# Altium integrated library Microchip Interface.IntLib: 180 symbols (part 5 of 6)
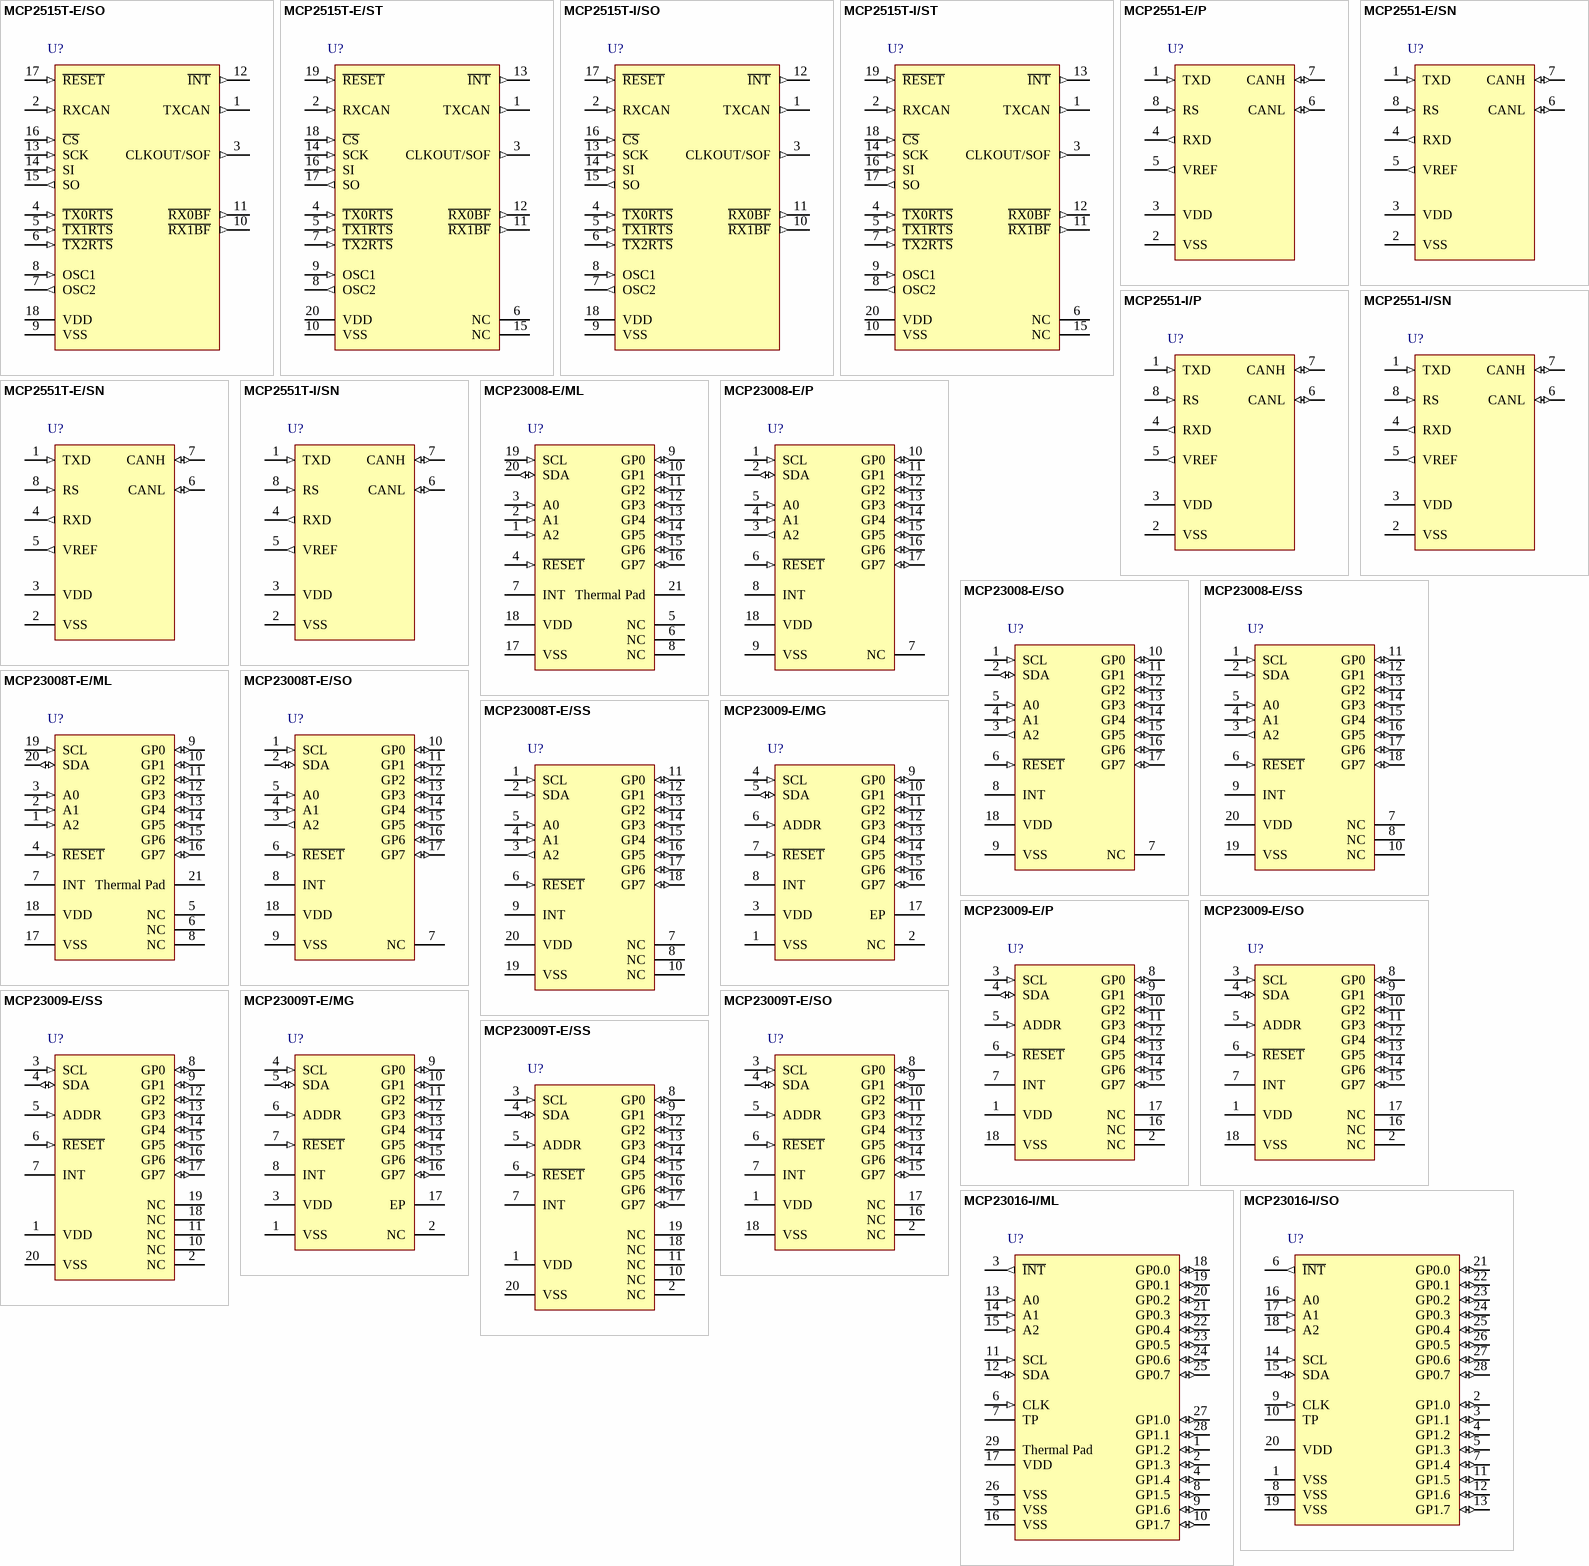
[diagram p12: symbols MCP2515T-E/SO to MCP23016-I/SO]

## MCP23016-I/SO
designator U?
16-Bit I2C I/O Expander, 28-Pin SOIC, Industrial Temperature; Published: 29-Jan-2009; DatasheetVersion: revC, Jan-2007; PackageVersion: revBB, Aug-2009; PackageReference: SOIC-SO28; Publisher: Altium Limited; PackageDescription: 28-Lead Plastic Small Outline (SO) - Wide 7.50mm Body [SOIC]; Supplier 1: Digi-Key; Supplier Part Number 1: MCP23016-I/SO-ND; Supplier 2: Farnell; Supplier Part Number 2: 1439758; Code_JEDEC: MS-013; ComponentLink1Description: Datasheet; ComponentLink1URL: http://ww1.microchip.com/downloads/en/DeviceDoc/20090C.pdf; ComponentLink2Description: Packaging Specification; ComponentLink2URL: http://www.microchip.com/stellent/groups/techpub_sg/documents/packagingspec/en012702.pdf; ComponentLink3Description: Microchip.com Home; ComponentLink3URL: http://www.microchip.com/
footprint SOIC-SO28_N (SOIC, 28-Leads, Body 17.9x7.5mm, Pitch 1.27mm, IPC Medium Density)
footprint SOIC-SO28_L (SOIC, 28-Leads, Body 17.9x7.5mm, Pitch 1.27mm, IPC High Density)
footprint SOIC-SO28_M (SOIC, 28-Leads, Body 17.9x7.5mm, Pitch 1.27mm, IPC Low Density)
pins: 1 VSS (power), 2 GP1.0 (io), 3 GP1.1 (io), 4 GP1.2 (io), 5 GP1.3 (io), 6 ~{INT} (out), 7 GP1.4 (io), 8 VSS (power), 9 CLK (in), 10 TP, 11 GP1.5 (io), 12 GP1.6 (io), 13 GP1.7 (io), 14 SCL (in), 15 SDA (io), 16 A0 (in), 17 A1 (in), 18 A2 (in), 19 VSS (power), 20 VDD (power), 21 GP0.0 (io), 22 GP0.1 (io), 23 GP0.2 (io), 24 GP0.3 (io), 25 GP0.4 (io), 26 GP0.5 (io), 27 GP0.6 (io), 28 GP0.7 (io)

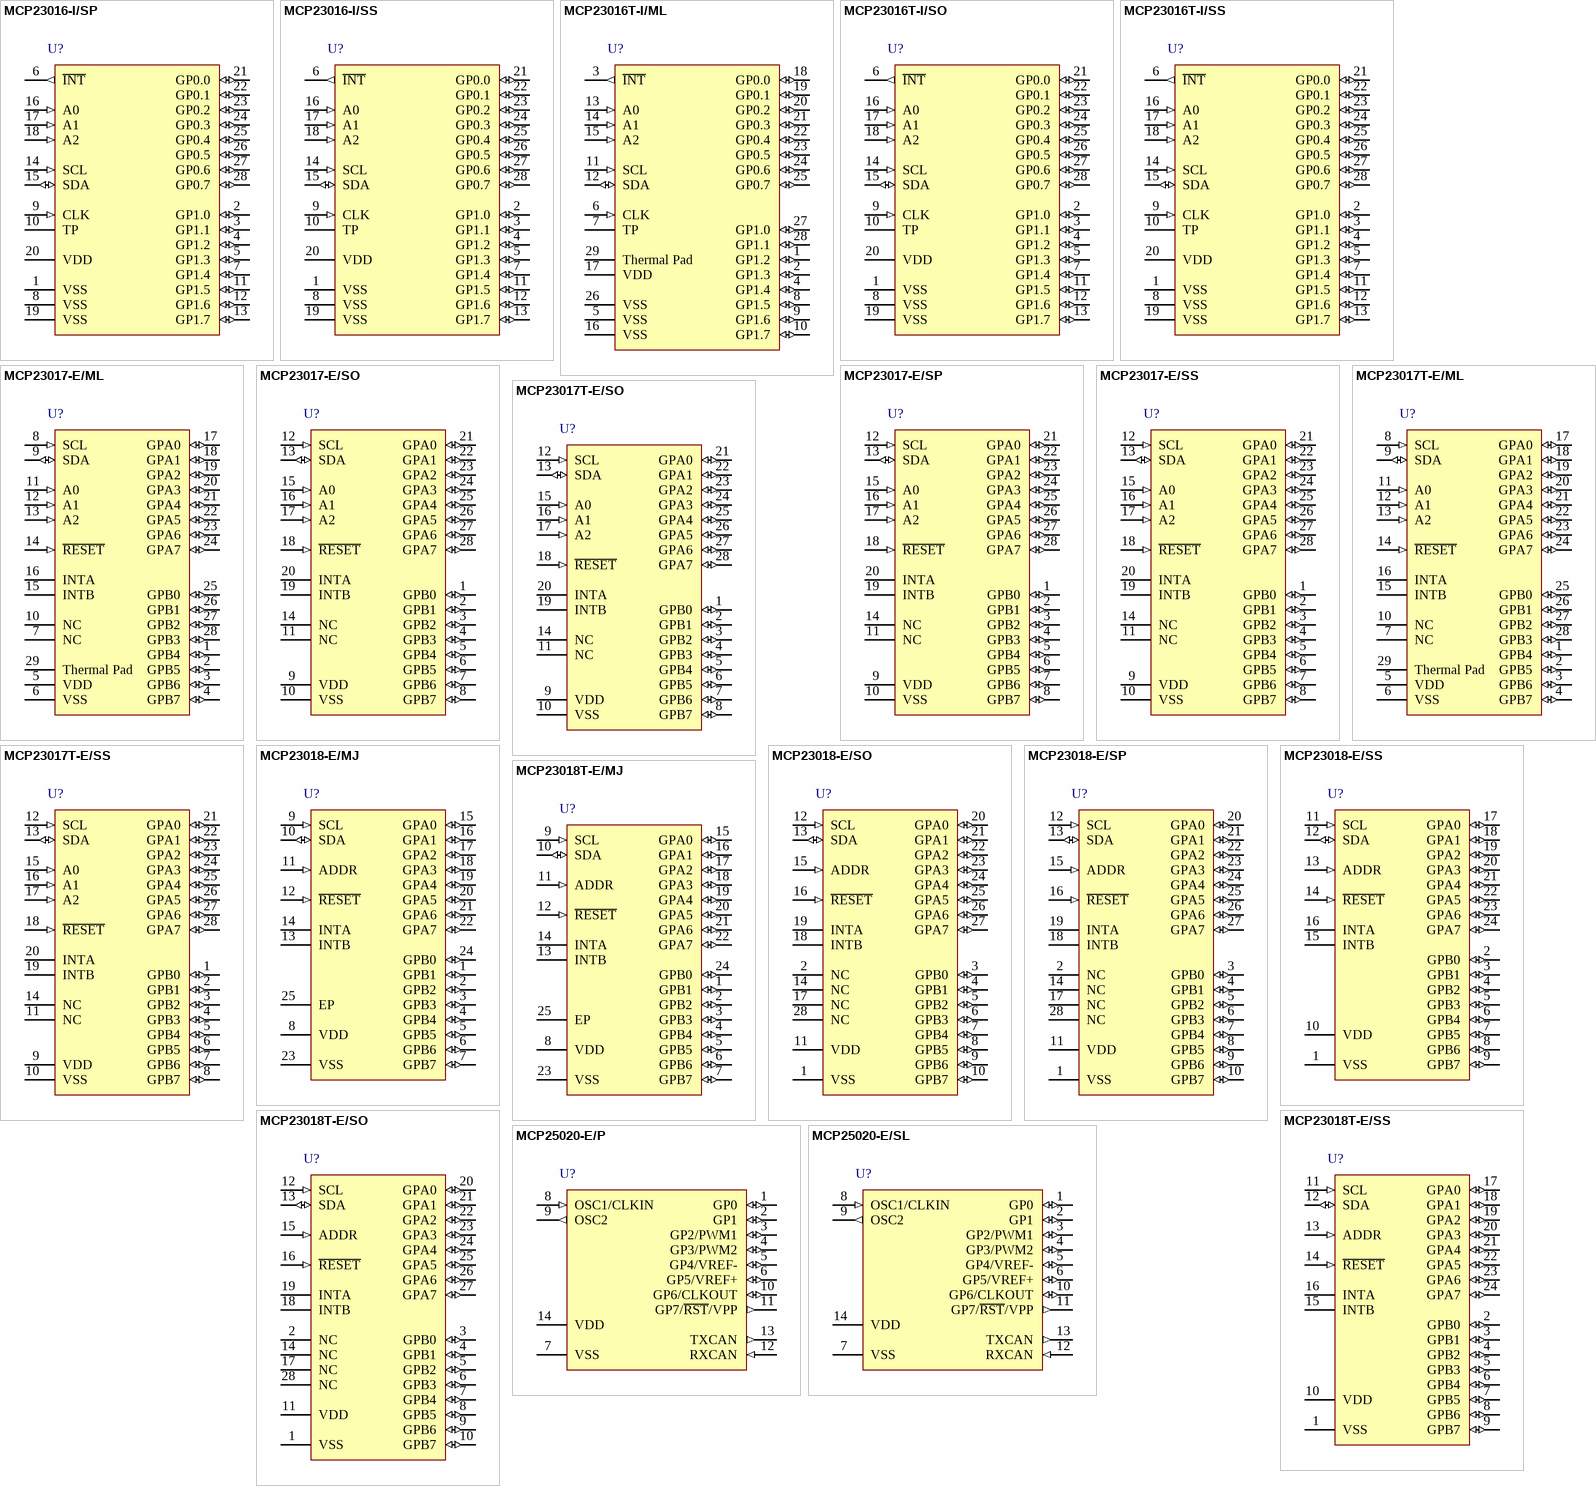
[diagram p7: symbols MCP23016-I/SP to MCP25020-E/SL]

## MCP23016-I/SP
designator U?
16-Bit I2C I/O Expander, 28-Pin SPDIP, Industrial Temperature; Published: 29-Jan-2009; DatasheetVersion: revC, Jan-2007; PackageVersion: revBB, Aug-2009; PackageReference: SPDIP300-SP28; Publisher: Altium Limited; PackageDescription: 28-Lead Skinny Plastic Dual In-Line (SP) - 300 mil Body [SPDIP]; Supplier 1: Digi-Key; Supplier Part Number 1: MCP23016-I/SP-ND; Supplier 2: Farnell; Supplier Part Number 2: 1439389; ComponentLink1Description: Datasheet; ComponentLink1URL: http://ww1.microchip.com/downloads/en/DeviceDoc/20090C.pdf; ComponentLink2Description: Packaging Specification; ComponentLink2URL: http://www.microchip.com/stellent/groups/techpub_sg/documents/packagingspec/en012702.pdf; ComponentLink3Description: Microchip.com Home; ComponentLink3URL: http://www.microchip.com/
footprint SPDIP300-SP28 (DIP, 28-Leads, Row Spacing 7.62mm, Pitch 2.54mm, Body 34.9x6.8mm)
pins: 1 VSS (power), 2 GP1.0 (io), 3 GP1.1 (io), 4 GP1.2 (io), 5 GP1.3 (io), 6 ~{INT} (out), 7 GP1.4 (io), 8 VSS (power), 9 CLK (in), 10 TP, 11 GP1.5 (io), 12 GP1.6 (io), 13 GP1.7 (io), 14 SCL (in), 15 SDA (io), 16 A0 (in), 17 A1 (in), 18 A2 (in), 19 VSS (power), 20 VDD (power), 21 GP0.0 (io), 22 GP0.1 (io), 23 GP0.2 (io), 24 GP0.3 (io), 25 GP0.4 (io), 26 GP0.5 (io), 27 GP0.6 (io), 28 GP0.7 (io)

## MCP23016-I/SS
designator U?
16-Bit I2C I/O Expander, 28-Pin SSOP, Industrial Temperature; Published: 29-Jan-2009; DatasheetVersion: revC, Jan-2007; PackageVersion: revBB, Aug-2009; PackageReference: SSOP-SS28; Publisher: Altium Limited; PackageDescription: 28-Lead Plastic Shrink Small Outline (SS) - 5.3mm Body [SSOP]; Supplier 1: Digi-Key; Supplier Part Number 1: MCP23016-I/SS-ND; Supplier 2: Farnell; Supplier Part Number 2: 1439757; Code_JEDEC: MS-150; Code_IPC: SOP65P780-28; ComponentLink1Description: Datasheet; ComponentLink1URL: http://ww1.microchip.com/downloads/en/DeviceDoc/20090C.pdf; ComponentLink2Description: Packaging Specification; ComponentLink2URL: http://www.microchip.com/stellent/groups/techpub_sg/documents/packagingspec/en012702.pdf; ComponentLink3Description: Microchip.com Home; ComponentLink3URL: http://www.microchip.com/
footprint SSOP-SS28_N (SOP, 28-Leads, Body 10.2x5.2mm, Pitch 0.65mm, IPC Medium Density)
footprint SSOP-SS28_L (SOP, 28-Leads, Body 10.2x5.2mm, Pitch 0.65mm, IPC High Density)
footprint SSOP-SS28_M (SOP, 28-Leads, Body 10.2x5.2mm, Pitch 0.65mm, IPC Low Density)
pins: 1 VSS (power), 2 GP1.0 (io), 3 GP1.1 (io), 4 GP1.2 (io), 5 GP1.3 (io), 6 ~{INT} (out), 7 GP1.4 (io), 8 VSS (power), 9 CLK (in), 10 TP, 11 GP1.5 (io), 12 GP1.6 (io), 13 GP1.7 (io), 14 SCL (in), 15 SDA (io), 16 A0 (in), 17 A1 (in), 18 A2 (in), 19 VSS (power), 20 VDD (power), 21 GP0.0 (io), 22 GP0.1 (io), 23 GP0.2 (io), 24 GP0.3 (io), 25 GP0.4 (io), 26 GP0.5 (io), 27 GP0.6 (io), 28 GP0.7 (io)

## MCP23016T-I/ML
designator U?
16-Bit I2C I/O Expander, 28-Pin QFN, Industrial Temperature, Tape and Reel; Published: 29-Jan-2009; DatasheetVersion: revC, Jan-2007; PackageVersion: revBB, Aug-2009; PackageReference: QFN-ML28; Publisher: Altium Limited; PackageDescription: 28-Lead Plastic Quad Flat, No Lead Package (ML) - 6x6 mm Body [QFN] with 0.55 mm Contact Length; Supplier 1: Digi-Key; Supplier Part Number 1: MCP23016T-I/ML-ND; Code_JEDEC: MO-220; Code_IPC: QFN65P600X600-28V; ComponentLink1Description: Datasheet; ComponentLink1URL: http://ww1.microchip.com/downloads/en/DeviceDoc/20090C.pdf; ComponentLink2Description: Packaging Specification; ComponentLink2URL: http://www.microchip.com/stellent/groups/techpub_sg/documents/packagingspec/en012702.pdf; ComponentLink3Description: Microchip.com Home; ComponentLink3URL: http://www.microchip.com/
footprint QFN-ML28_N (QFN, 28-Leads, Body 6x6 mm, Pitch 0.65mm, IPC Medium Density)
footprint QFN-ML28_L (QFN, 28-Leads, Body 6x6 mm, Pitch 0.65mm, IPC High Density)
footprint QFN-ML28_M (QFN, 28-Leads, Body 6x6 mm, Pitch 0.65mm, IPC Low Density)
pins: 1 GP1.2 (io), 2 GP1.3 (io), 3 ~{INT} (out), 4 GP1.4 (io), 5 VSS (power), 6 CLK (in), 7 TP, 8 GP1.5 (io), 9 GP1.6 (io), 10 GP1.7 (io), 11 SCL (in), 12 SDA (io), 13 A0 (in), 14 A1 (in), 15 A2 (in), 16 VSS (power), 17 VDD (power), 18 GP0.0 (io), 19 GP0.1 (io), 20 GP0.2 (io), 21 GP0.3 (io), 22 GP0.4 (io), 23 GP0.5 (io), 24 GP0.6 (io), 25 GP0.7 (io), 26 VSS (power), 27 GP1.0 (io), 28 GP1.1 (io), 29 Thermal Pad

## MCP23016T-I/SO
designator U?
16-Bit I2C I/O Expander, 28-Pin SOIC, Industrial Temperature, Tape and Reel; Published: 29-Jan-2009; DatasheetVersion: revC, Jan-2007; PackageVersion: revBB, Aug-2009; PackageReference: SOIC-SO28; Publisher: Altium Limited; PackageDescription: 28-Lead Plastic Small Outline (SO) - Wide 7.50mm Body [SOIC]; Supplier 1: Digi-Key; Supplier Part Number 1: MCP23016T-I/SO-ND; Code_JEDEC: MS-013; ComponentLink1Description: Datasheet; ComponentLink1URL: http://ww1.microchip.com/downloads/en/DeviceDoc/20090C.pdf; ComponentLink2Description: Packaging Specification; ComponentLink2URL: http://www.microchip.com/stellent/groups/techpub_sg/documents/packagingspec/en012702.pdf; ComponentLink3Description: Microchip.com Home; ComponentLink3URL: http://www.microchip.com/
footprint SOIC-SO28_N (SOIC, 28-Leads, Body 17.9x7.5mm, Pitch 1.27mm, IPC Medium Density)
footprint SOIC-SO28_L (SOIC, 28-Leads, Body 17.9x7.5mm, Pitch 1.27mm, IPC High Density)
footprint SOIC-SO28_M (SOIC, 28-Leads, Body 17.9x7.5mm, Pitch 1.27mm, IPC Low Density)
pins: 1 VSS (power), 2 GP1.0 (io), 3 GP1.1 (io), 4 GP1.2 (io), 5 GP1.3 (io), 6 ~{INT} (out), 7 GP1.4 (io), 8 VSS (power), 9 CLK (in), 10 TP, 11 GP1.5 (io), 12 GP1.6 (io), 13 GP1.7 (io), 14 SCL (in), 15 SDA (io), 16 A0 (in), 17 A1 (in), 18 A2 (in), 19 VSS (power), 20 VDD (power), 21 GP0.0 (io), 22 GP0.1 (io), 23 GP0.2 (io), 24 GP0.3 (io), 25 GP0.4 (io), 26 GP0.5 (io), 27 GP0.6 (io), 28 GP0.7 (io)

## MCP23016T-I/SS
designator U?
16-Bit I2C I/O Expander, 28-Pin SSOP, Industrial Temperature, Tape and Reel; Published: 29-Jan-2009; DatasheetVersion: revC, Jan-2007; PackageVersion: revBB, Aug-2009; PackageReference: SSOP-SS28; Publisher: Altium Limited; PackageDescription: 28-Lead Plastic Shrink Small Outline (SS) - 5.3mm Body [SSOP]; Supplier 1: Digi-Key; Supplier Part Number 1: MCP23016T-I/SS-ND; Code_JEDEC: MS-150; Code_IPC: SOP65P780-28; ComponentLink1Description: Datasheet; ComponentLink1URL: http://ww1.microchip.com/downloads/en/DeviceDoc/20090C.pdf; ComponentLink2Description: Packaging Specification; ComponentLink2URL: http://www.microchip.com/stellent/groups/techpub_sg/documents/packagingspec/en012702.pdf; ComponentLink3Description: Microchip.com Home; ComponentLink3URL: http://www.microchip.com/
footprint SSOP-SS28_N (SOP, 28-Leads, Body 10.2x5.2mm, Pitch 0.65mm, IPC Medium Density)
footprint SSOP-SS28_L (SOP, 28-Leads, Body 10.2x5.2mm, Pitch 0.65mm, IPC High Density)
footprint SSOP-SS28_M (SOP, 28-Leads, Body 10.2x5.2mm, Pitch 0.65mm, IPC Low Density)
pins: 1 VSS (power), 2 GP1.0 (io), 3 GP1.1 (io), 4 GP1.2 (io), 5 GP1.3 (io), 6 ~{INT} (out), 7 GP1.4 (io), 8 VSS (power), 9 CLK (in), 10 TP, 11 GP1.5 (io), 12 GP1.6 (io), 13 GP1.7 (io), 14 SCL (in), 15 SDA (io), 16 A0 (in), 17 A1 (in), 18 A2 (in), 19 VSS (power), 20 VDD (power), 21 GP0.0 (io), 22 GP0.1 (io), 23 GP0.2 (io), 24 GP0.3 (io), 25 GP0.4 (io), 26 GP0.5 (io), 27 GP0.6 (io), 28 GP0.7 (io)

## MCP23017-E/ML
designator U?
16-Bit I/O Expander with Serial Interface, 28-Pin QFN, Extended Temperature; Published: 29-Jan-2009; DatasheetVersion: revB, Feb-2007; PackageVersion: revBB, Aug-2009; PackageReference: QFN-ML28; Publisher: Altium Limited; PackageDescription: 28-Lead Plastic Quad Flat, No Lead Package (ML) - 6x6 mm Body [QFN] with 0.55 mm Contact Length; Supplier 1: Digi-Key; Supplier Part Number 1: MCP23017-E/ML-ND; Supplier 2: Farnell; Supplier Part Number 2: 1788352; Code_JEDEC: MO-220; Code_IPC: QFN65P600X600-28V; ComponentLink1Description: Datasheet; ComponentLink1URL: http://ww1.microchip.com/downloads/en/DeviceDoc/21952b.pdf; ComponentLink2Description: Packaging Specification; ComponentLink2URL: http://www.microchip.com/stellent/groups/techpub_sg/documents/packagingspec/en012702.pdf; ComponentLink3Description: Microchip.com Home; ComponentLink3URL: http://www.microchip.com/
footprint QFN-ML28_N (QFN, 28-Leads, Body 6x6 mm, Pitch 0.65mm, IPC Medium Density)
footprint QFN-ML28_L (QFN, 28-Leads, Body 6x6 mm, Pitch 0.65mm, IPC High Density)
footprint QFN-ML28_M (QFN, 28-Leads, Body 6x6 mm, Pitch 0.65mm, IPC Low Density)
pins: 1 GPB4 (io), 2 GPB5 (io), 3 GPB6 (io), 4 GPB7 (io), 5 VDD (power), 6 VSS (power), 7 NC, 8 SCL (in), 9 SDA (io), 10 NC, 11 A0 (in), 12 A1 (in), 13 A2 (in), 14 ~{RESET} (in), 15 INTB (oc), 16 INTA (oc), 17 GPA0 (io), 18 GPA1 (io), 19 GPA2 (io), 20 GPA3 (io), 21 GPA4 (io), 22 GPA5 (io), 23 GPA6 (io), 24 GPA7 (io), 25 GPB0 (io), 26 GPB1 (io), 27 GPB2 (io), 28 GPB3 (io), 29 Thermal Pad

## MCP23017-E/SO
designator U?
16-Bit I/O Expander with Serial Interface, 28-Pin SOIC, Extended Temperature; Published: 29-Jan-2009; DatasheetVersion: revB, Feb-2007; PackageVersion: revBB, Aug-2009; PackageReference: SOIC-SO28; Publisher: Altium Limited; PackageDescription: 28-Lead Plastic Small Outline (SO) - Wide 7.50mm Body [SOIC]; Supplier 1: Digi-Key; Supplier Part Number 1: MCP23017-E/SO-ND; Supplier 2: Farnell; Supplier Part Number 2: 1332087; Code_JEDEC: MS-013; ComponentLink1Description: Datasheet; ComponentLink1URL: http://ww1.microchip.com/downloads/en/DeviceDoc/21952b.pdf; ComponentLink2Description: Packaging Specification; ComponentLink2URL: http://www.microchip.com/stellent/groups/techpub_sg/documents/packagingspec/en012702.pdf; ComponentLink3Description: Microchip.com Home; ComponentLink3URL: http://www.microchip.com/
footprint SOIC-SO28_N (SOIC, 28-Leads, Body 17.9x7.5mm, Pitch 1.27mm, IPC Medium Density)
footprint SOIC-SO28_L (SOIC, 28-Leads, Body 17.9x7.5mm, Pitch 1.27mm, IPC High Density)
footprint SOIC-SO28_M (SOIC, 28-Leads, Body 17.9x7.5mm, Pitch 1.27mm, IPC Low Density)
pins: 1 GPB0 (io), 2 GPB1 (io), 3 GPB2 (io), 4 GPB3 (io), 5 GPB4 (io), 6 GPB5 (io), 7 GPB6 (io), 8 GPB7 (io), 9 VDD (power), 10 VSS (power), 11 NC, 12 SCL (in), 13 SDA (io), 14 NC, 15 A0 (in), 16 A1 (in), 17 A2 (in), 18 ~{RESET} (in), 19 INTB (oc), 20 INTA (oc), 21 GPA0 (io), 22 GPA1 (io), 23 GPA2 (io), 24 GPA3 (io), 25 GPA4 (io), 26 GPA5 (io), 27 GPA6 (io), 28 GPA7 (io)

## MCP23017-E/SP
designator U?
16-Bit I/O Expander with Serial Interface, 28-Pin SPDIP, Extended Temperature; Published: 29-Jan-2009; DatasheetVersion: revB, Feb-2007; PackageVersion: revBB, Aug-2009; PackageReference: SPDIP300-SP28; Publisher: Altium Limited; PackageDescription: 28-Lead Skinny Plastic Dual In-Line (SP) - 300 mil Body [SPDIP]; Supplier 1: Digi-Key; Supplier Part Number 1: MCP23017-E/SP-ND; Supplier 2: Farnell; Supplier Part Number 2: 1332088; ComponentLink1Description: Datasheet; ComponentLink1URL: http://ww1.microchip.com/downloads/en/DeviceDoc/21952b.pdf; ComponentLink2Description: Packaging Specification; ComponentLink2URL: http://www.microchip.com/stellent/groups/techpub_sg/documents/packagingspec/en012702.pdf; ComponentLink3Description: Microchip.com Home; ComponentLink3URL: http://www.microchip.com/
footprint SPDIP300-SP28 (DIP, 28-Leads, Row Spacing 7.62mm, Pitch 2.54mm, Body 34.9x6.8mm)
pins: 1 GPB0 (io), 2 GPB1 (io), 3 GPB2 (io), 4 GPB3 (io), 5 GPB4 (io), 6 GPB5 (io), 7 GPB6 (io), 8 GPB7 (io), 9 VDD (power), 10 VSS (power), 11 NC, 12 SCL (in), 13 SDA (io), 14 NC, 15 A0 (in), 16 A1 (in), 17 A2 (in), 18 ~{RESET} (in), 19 INTB (oc), 20 INTA (oc), 21 GPA0 (io), 22 GPA1 (io), 23 GPA2 (io), 24 GPA3 (io), 25 GPA4 (io), 26 GPA5 (io), 27 GPA6 (io), 28 GPA7 (io)

## MCP23017-E/SS
designator U?
16-Bit I/O Expander with Serial Interface, 28-Pin SSOP, Extended Temperature; Published: 29-Jan-2009; DatasheetVersion: revB, Feb-2007; PackageVersion: revBB, Aug-2009; PackageReference: SSOP-SS28; Publisher: Altium Limited; PackageDescription: 28-Lead Plastic Shrink Small Outline (SS) - 5.3mm Body [SSOP]; Supplier 1: Digi-Key; Supplier Part Number 1: MCP23017-E/SS-ND; Supplier 2: Farnell; Supplier Part Number 2: 1467674; Supplier 3: Farnell; Supplier Part Number 3: 1262564; Code_JEDEC: MS-150; Code_IPC: SOP65P780-28; ComponentLink1Description: Datasheet; ComponentLink1URL: http://ww1.microchip.com/downloads/en/DeviceDoc/21952b.pdf; ComponentLink2Description: Packaging Specification; ComponentLink2URL: http://www.microchip.com/stellent/groups/techpub_sg/documents/packagingspec/en012702.pdf; ComponentLink3Description: Microchip.com Home; ComponentLink3URL: http://www.microchip.com/
footprint SSOP-SS28_N (SOP, 28-Leads, Body 10.2x5.2mm, Pitch 0.65mm, IPC Medium Density)
footprint SSOP-SS28_L (SOP, 28-Leads, Body 10.2x5.2mm, Pitch 0.65mm, IPC High Density)
footprint SSOP-SS28_M (SOP, 28-Leads, Body 10.2x5.2mm, Pitch 0.65mm, IPC Low Density)
pins: 1 GPB0 (io), 2 GPB1 (io), 3 GPB2 (io), 4 GPB3 (io), 5 GPB4 (io), 6 GPB5 (io), 7 GPB6 (io), 8 GPB7 (io), 9 VDD (power), 10 VSS (power), 11 NC, 12 SCL (in), 13 SDA (io), 14 NC, 15 A0 (in), 16 A1 (in), 17 A2 (in), 18 ~{RESET} (in), 19 INTB (oc), 20 INTA (oc), 21 GPA0 (io), 22 GPA1 (io), 23 GPA2 (io), 24 GPA3 (io), 25 GPA4 (io), 26 GPA5 (io), 27 GPA6 (io), 28 GPA7 (io)

## MCP23017T-E/ML
designator U?
16-Bit I/O Expander with Serial Interface, 28-Pin QFN, Extended Temperature, Tape and Reel; Published: 29-Jan-2009; DatasheetVersion: revB, Feb-2007; PackageVersion: revBB, Aug-2009; PackageReference: QFN-ML28; Publisher: Altium Limited; PackageDescription: 28-Lead Plastic Quad Flat, No Lead Package (ML) - 6x6 mm Body [QFN] with 0.55 mm Contact Length; Supplier 1: Digi-Key; Supplier Part Number 1: MCP23017T-E/ML-ND; Code_JEDEC: MO-220; Code_IPC: QFN65P600X600-28V; ComponentLink1Description: Datasheet; ComponentLink1URL: http://ww1.microchip.com/downloads/en/DeviceDoc/21952b.pdf; ComponentLink2Description: Packaging Specification; ComponentLink2URL: http://www.microchip.com/stellent/groups/techpub_sg/documents/packagingspec/en012702.pdf; ComponentLink3Description: Microchip.com Home; ComponentLink3URL: http://www.microchip.com/
footprint QFN-ML28_N (QFN, 28-Leads, Body 6x6 mm, Pitch 0.65mm, IPC Medium Density)
footprint QFN-ML28_L (QFN, 28-Leads, Body 6x6 mm, Pitch 0.65mm, IPC High Density)
footprint QFN-ML28_M (QFN, 28-Leads, Body 6x6 mm, Pitch 0.65mm, IPC Low Density)
pins: 1 GPB4 (io), 2 GPB5 (io), 3 GPB6 (io), 4 GPB7 (io), 5 VDD (power), 6 VSS (power), 7 NC, 8 SCL (in), 9 SDA (io), 10 NC, 11 A0 (in), 12 A1 (in), 13 A2 (in), 14 ~{RESET} (in), 15 INTB (oc), 16 INTA (oc), 17 GPA0 (io), 18 GPA1 (io), 19 GPA2 (io), 20 GPA3 (io), 21 GPA4 (io), 22 GPA5 (io), 23 GPA6 (io), 24 GPA7 (io), 25 GPB0 (io), 26 GPB1 (io), 27 GPB2 (io), 28 GPB3 (io), 29 Thermal Pad

## MCP23017T-E/SO
designator U?
16-Bit I/O Expander with Serial Interface, 28-Pin SOIC, Extended Temperature, Tape and Reel; Published: 29-Jan-2009; DatasheetVersion: revB, Feb-2007; PackageVersion: revBB, Aug-2009; PackageReference: SOIC-SO28; Publisher: Altium Limited; PackageDescription: 28-Lead Plastic Small Outline (SO) - Wide 7.50mm Body [SOIC]; Supplier 1: Digi-Key; Supplier Part Number 1: MCP23017T-E/SO-ND; Code_JEDEC: MS-013; ComponentLink1Description: Datasheet; ComponentLink1URL: http://ww1.microchip.com/downloads/en/DeviceDoc/21952b.pdf; ComponentLink2Description: Packaging Specification; ComponentLink2URL: http://www.microchip.com/stellent/groups/techpub_sg/documents/packagingspec/en012702.pdf; ComponentLink3Description: Microchip.com Home; ComponentLink3URL: http://www.microchip.com/
footprint SOIC-SO28_N (SOIC, 28-Leads, Body 17.9x7.5mm, Pitch 1.27mm, IPC Medium Density)
footprint SOIC-SO28_L (SOIC, 28-Leads, Body 17.9x7.5mm, Pitch 1.27mm, IPC High Density)
footprint SOIC-SO28_M (SOIC, 28-Leads, Body 17.9x7.5mm, Pitch 1.27mm, IPC Low Density)
pins: 1 GPB0 (io), 2 GPB1 (io), 3 GPB2 (io), 4 GPB3 (io), 5 GPB4 (io), 6 GPB5 (io), 7 GPB6 (io), 8 GPB7 (io), 9 VDD (power), 10 VSS (power), 11 NC, 12 SCL (in), 13 SDA (io), 14 NC, 15 A0 (in), 16 A1 (in), 17 A2 (in), 18 ~{RESET} (in), 19 INTB (oc), 20 INTA (oc), 21 GPA0 (io), 22 GPA1 (io), 23 GPA2 (io), 24 GPA3 (io), 25 GPA4 (io), 26 GPA5 (io), 27 GPA6 (io), 28 GPA7 (io)

## MCP23017T-E/SS
designator U?
16-Bit I/O Expander with Serial Interface, 28-Pin SSOP, Extended Temperature, Tape and Reel; Published: 29-Jan-2009; DatasheetVersion: revB, Feb-2007; PackageVersion: revBB, Aug-2009; PackageReference: SSOP-SS28; Publisher: Altium Limited; PackageDescription: 28-Lead Plastic Shrink Small Outline (SS) - 5.3mm Body [SSOP]; Supplier 1: Digi-Key; Supplier Part Number 1: MCP23017T-E/SS-ND; Code_JEDEC: MS-150; Code_IPC: SOP65P780-28; ComponentLink1Description: Datasheet; ComponentLink1URL: http://ww1.microchip.com/downloads/en/DeviceDoc/21952b.pdf; ComponentLink2Description: Packaging Specification; ComponentLink2URL: http://www.microchip.com/stellent/groups/techpub_sg/documents/packagingspec/en012702.pdf; ComponentLink3Description: Microchip.com Home; ComponentLink3URL: http://www.microchip.com/
footprint SSOP-SS28_N (SOP, 28-Leads, Body 10.2x5.2mm, Pitch 0.65mm, IPC Medium Density)
footprint SSOP-SS28_L (SOP, 28-Leads, Body 10.2x5.2mm, Pitch 0.65mm, IPC High Density)
footprint SSOP-SS28_M (SOP, 28-Leads, Body 10.2x5.2mm, Pitch 0.65mm, IPC Low Density)
pins: 1 GPB0 (io), 2 GPB1 (io), 3 GPB2 (io), 4 GPB3 (io), 5 GPB4 (io), 6 GPB5 (io), 7 GPB6 (io), 8 GPB7 (io), 9 VDD (power), 10 VSS (power), 11 NC, 12 SCL (in), 13 SDA (io), 14 NC, 15 A0 (in), 16 A1 (in), 17 A2 (in), 18 ~{RESET} (in), 19 INTB (oc), 20 INTA (oc), 21 GPA0 (io), 22 GPA1 (io), 23 GPA2 (io), 24 GPA3 (io), 25 GPA4 (io), 26 GPA5 (io), 27 GPA6 (io), 28 GPA7 (io)

## MCP23018-E/MJ
designator U?
8-Bit I/O Expander with Open-Drain Outputs, High-Speed I2C Interface, 24-Pin QFN, Extended Temperature; Published: 2-Dec-2009; DatasheetVersion: revA, Sep-2008; PackageVersion: revBB, Aug-2009; PackageReference: QFN-MJ24; Publisher: Altium Limited; PackageDescription: 24-Lead Plastic Quad Flat, No Lead Package (MJ) - 4x4x0.9mm Body [QFN]; Supplier 1: Digi-Key; Supplier Part Number 1: MCP23018-E/MJ-ND; ComponentLink1Description: Datasheet; ComponentLink1URL: http://ww1.microchip.com/downloads/en/DeviceDoc/22103a.pdf; ComponentLink2Description: Packaging Specification; ComponentLink2URL: http://www.microchip.com/stellent/groups/techpub_sg/documents/packagingspec/en012702.pdf; ComponentLink3Description: Microchip.com Home; ComponentLink3URL: http://www.microchip.com/
footprint QFN-MJ24 (QFN, 24-Leads, Body 4x4mm, Pitch 0.5mm, Microchip Recommended)
pins: 1 GPB1 (io), 2 GPB2 (io), 3 GPB3 (io), 4 GPB4 (io), 5 GPB5 (io), 6 GPB6 (io), 7 GPB7 (io), 8 VDD (power), 9 SCL (in), 10 SDA (io), 11 ADDR (in), 12 ~{RESET} (in), 13 INTB (oc), 14 INTA (oc), 15 GPA0 (io), 16 GPA1 (io), 17 GPA2 (io), 18 GPA3 (io), 19 GPA4 (io), 20 GPA5 (io), 21 GPA6 (io), 22 GPA7 (io), 23 VSS (power), 24 GPB0 (io), 25 EP

## MCP23018-E/SO
designator U?
8-Bit I/O Expander with Open-Drain Outputs, High-Speed I2C Interface, 28-Pin SOIC, Extended Temperature; Published: 2-Dec-2009; DatasheetVersion: revA, Sep-2008; PackageVersion: revBB, Aug-2009; PackageReference: SOIC-SO28; Publisher: Altium Limited; PackageDescription: 28-Lead Plastic Small Outline (SO) - Wide 7.50mm Body [SOIC]; Supplier 1: Digi-Key; Supplier Part Number 1: MCP23018-E/SO-ND; Supplier 2: Farnell; Supplier Part Number 2: 1695227; Code_JEDEC: MS-013; ComponentLink1Description: Datasheet; ComponentLink1URL: http://ww1.microchip.com/downloads/en/DeviceDoc/22103a.pdf; ComponentLink2Description: Packaging Specification; ComponentLink2URL: http://www.microchip.com/stellent/groups/techpub_sg/documents/packagingspec/en012702.pdf; ComponentLink3Description: Microchip.com Home; ComponentLink3URL: http://www.microchip.com/
footprint SOIC-SO28_N (SOIC, 28-Leads, Body 17.9x7.5mm, Pitch 1.27mm, IPC Medium Density)
footprint SOIC-SO28_L (SOIC, 28-Leads, Body 17.9x7.5mm, Pitch 1.27mm, IPC High Density)
footprint SOIC-SO28_M (SOIC, 28-Leads, Body 17.9x7.5mm, Pitch 1.27mm, IPC Low Density)
pins: 1 VSS (power), 2 NC, 3 GPB0 (io), 4 GPB1 (io), 5 GPB2 (io), 6 GPB3 (io), 7 GPB4 (io), 8 GPB5 (io), 9 GPB6 (io), 10 GPB7 (io), 11 VDD (power), 12 SCL (in), 13 SDA (io), 14 NC, 15 ADDR (in), 16 ~{RESET} (in), 17 NC, 18 INTB (oc), 19 INTA (oc), 20 GPA0 (io), 21 GPA1 (io), 22 GPA2 (io), 23 GPA3 (io), 24 GPA4 (io), 25 GPA5 (io), 26 GPA6 (io), 27 GPA7 (io), 28 NC

## MCP23018-E/SP
designator U?
8-Bit I/O Expander with Open-Drain Outputs, High-Speed I2C Interface, 28-Pin SPDIP, Extended Temperature; Published: 2-Dec-2009; DatasheetVersion: revA, Sep-2008; PackageVersion: revBB, Aug-2009; PackageReference: SPDIP300-SP28; Publisher: Altium Limited; PackageDescription: 28-Lead Skinny Plastic Dual In-Line (SP) - 300 mil Body [SPDIP]; Supplier 1: Digi-Key; Supplier Part Number 1: MCP23018-E/SP-ND; Supplier 2: Farnell; Supplier Part Number 2: 1695229; ComponentLink1Description: Datasheet; ComponentLink1URL: http://ww1.microchip.com/downloads/en/DeviceDoc/22103a.pdf; ComponentLink2Description: Packaging Specification; ComponentLink2URL: http://www.microchip.com/stellent/groups/techpub_sg/documents/packagingspec/en012702.pdf; ComponentLink3Description: Microchip.com Home; ComponentLink3URL: http://www.microchip.com/
footprint SPDIP300-SP28 (DIP, 28-Leads, Row Spacing 7.62mm, Pitch 2.54mm, Body 34.9x6.8mm)
pins: 1 VSS (power), 2 NC, 3 GPB0 (io), 4 GPB1 (io), 5 GPB2 (io), 6 GPB3 (io), 7 GPB4 (io), 8 GPB5 (io), 9 GPB6 (io), 10 GPB7 (io), 11 VDD (power), 12 SCL (in), 13 SDA (io), 14 NC, 15 ADDR (in), 16 ~{RESET} (in), 17 NC, 18 INTB (oc), 19 INTA (oc), 20 GPA0 (io), 21 GPA1 (io), 22 GPA2 (io), 23 GPA3 (io), 24 GPA4 (io), 25 GPA5 (io), 26 GPA6 (io), 27 GPA7 (io), 28 NC

## MCP23018-E/SS
designator U?
8-Bit I/O Expander with Open-Drain Outputs, High-Speed I2C Interface, 24-Pin SSOP, Extended Temperature; Published: 2-Dec-2009; DatasheetVersion: revA, Sep-2008; PackageVersion: revBB, Aug-2009; PackageReference: SSOP-SS24; Publisher: Altium Limited; PackageDescription: 24-Lead Plastic Shrink Small Outline (SS) - 5.3mm Body [SSOP]; Supplier 1: Digi-Key; Supplier Part Number 1: MCP23018-E/SS-ND; Code_JEDEC: MO-150-AG; Code_IPC: SOP65P780-24; ComponentLink1Description: Datasheet; ComponentLink1URL: http://ww1.microchip.com/downloads/en/DeviceDoc/22103a.pdf; ComponentLink2Description: Packaging Specification; ComponentLink2URL: http://www.microchip.com/stellent/groups/techpub_sg/documents/packagingspec/en012702.pdf; ComponentLink3Description: Microchip.com Home; ComponentLink3URL: http://www.microchip.com/
footprint SSOP-SS24_N (SOP, 24-Leads, Body 8.2x5.3mm, Pitch 0.65mm, IPC Medium Density)
footprint SSOP-SS24_L (SOP, 24-Leads, Body 8.2x5.3mm, Pitch 0.65mm, IPC High Density)
footprint SSOP-SS24_M (SOP, 24-Leads, Body 8.2x5.3mm, Pitch 0.65mm, IPC Low Density)
pins: 1 VSS (power), 2 GPB0 (io), 3 GPB1 (io), 4 GPB2 (io), 5 GPB3 (io), 6 GPB4 (io), 7 GPB5 (io), 8 GPB6 (io), 9 GPB7 (io), 10 VDD (power), 11 SCL (in), 12 SDA (io), 13 ADDR (in), 14 ~{RESET} (in), 15 INTB (oc), 16 INTA (oc), 17 GPA0 (io), 18 GPA1 (io), 19 GPA2 (io), 20 GPA3 (io), 21 GPA4 (io), 22 GPA5 (io), 23 GPA6 (io), 24 GPA7 (io)

## MCP23018T-E/MJ
designator U?
8-Bit I/O Expander with Open-Drain Outputs, High-Speed I2C Interface, 24-Pin QFN, Extended Temperature, Tape and Reel; Published: 2-Dec-2009; DatasheetVersion: revA, Sep-2008; PackageVersion: revBB, Aug-2009; PackageReference: QFN-MJ24; Publisher: Altium Limited; PackageDescription: 24-Lead Plastic Quad Flat, No Lead Package (MJ) - 4x4x0.9mm Body [QFN]; Supplier 1: Digi-Key; Supplier Part Number 1: MCP23018T-E/MJ-ND; ComponentLink1Description: Datasheet; ComponentLink1URL: http://ww1.microchip.com/downloads/en/DeviceDoc/22103a.pdf; ComponentLink2Description: Packaging Specification; ComponentLink2URL: http://www.microchip.com/stellent/groups/techpub_sg/documents/packagingspec/en012702.pdf; ComponentLink3Description: Microchip.com Home; ComponentLink3URL: http://www.microchip.com/
footprint QFN-MJ24 (QFN, 24-Leads, Body 4x4mm, Pitch 0.5mm, Microchip Recommended)
pins: 1 GPB1 (io), 2 GPB2 (io), 3 GPB3 (io), 4 GPB4 (io), 5 GPB5 (io), 6 GPB6 (io), 7 GPB7 (io), 8 VDD (power), 9 SCL (in), 10 SDA (io), 11 ADDR (in), 12 ~{RESET} (in), 13 INTB (oc), 14 INTA (oc), 15 GPA0 (io), 16 GPA1 (io), 17 GPA2 (io), 18 GPA3 (io), 19 GPA4 (io), 20 GPA5 (io), 21 GPA6 (io), 22 GPA7 (io), 23 VSS (power), 24 GPB0 (io), 25 EP

## MCP23018T-E/SO
designator U?
8-Bit I/O Expander with Open-Drain Outputs, High-Speed I2C Interface, 28-Pin SOIC, Extended Temperature, Tape and Reel; Published: 2-Dec-2009; DatasheetVersion: revA, Sep-2008; PackageVersion: revBB, Aug-2009; PackageReference: SOIC-SO28; Publisher: Altium Limited; PackageDescription: 28-Lead Plastic Small Outline (SO) - Wide 7.50mm Body [SOIC]; Supplier 1: Digi-Key; Supplier Part Number 1: MCP23018T-E/SO-ND; Code_JEDEC: MS-013; ComponentLink1Description: Datasheet; ComponentLink1URL: http://ww1.microchip.com/downloads/en/DeviceDoc/22103a.pdf; ComponentLink2Description: Packaging Specification; ComponentLink2URL: http://www.microchip.com/stellent/groups/techpub_sg/documents/packagingspec/en012702.pdf; ComponentLink3Description: Microchip.com Home; ComponentLink3URL: http://www.microchip.com/
footprint SOIC-SO28_N (SOIC, 28-Leads, Body 17.9x7.5mm, Pitch 1.27mm, IPC Medium Density)
footprint SOIC-SO28_L (SOIC, 28-Leads, Body 17.9x7.5mm, Pitch 1.27mm, IPC High Density)
footprint SOIC-SO28_M (SOIC, 28-Leads, Body 17.9x7.5mm, Pitch 1.27mm, IPC Low Density)
pins: 1 VSS (power), 2 NC, 3 GPB0 (io), 4 GPB1 (io), 5 GPB2 (io), 6 GPB3 (io), 7 GPB4 (io), 8 GPB5 (io), 9 GPB6 (io), 10 GPB7 (io), 11 VDD (power), 12 SCL (in), 13 SDA (io), 14 NC, 15 ADDR (in), 16 ~{RESET} (in), 17 NC, 18 INTB (oc), 19 INTA (oc), 20 GPA0 (io), 21 GPA1 (io), 22 GPA2 (io), 23 GPA3 (io), 24 GPA4 (io), 25 GPA5 (io), 26 GPA6 (io), 27 GPA7 (io), 28 NC

## MCP23018T-E/SS
designator U?
8-Bit I/O Expander with Open-Drain Outputs, High-Speed I2C Interface, 24-Pin SSOP, Extended Temperature, Tape and Reel; Published: 2-Dec-2009; DatasheetVersion: revA, Sep-2008; PackageVersion: revBB, Aug-2009; PackageReference: SSOP-SS24; Publisher: Altium Limited; PackageDescription: 24-Lead Plastic Shrink Small Outline (SS) - 5.3mm Body [SSOP]; Supplier 1: Digi-Key; Supplier Part Number 1: MCP23018T-E/SS-ND; Code_JEDEC: MO-150-AG; Code_IPC: SOP65P780-24; ComponentLink1Description: Datasheet; ComponentLink1URL: http://ww1.microchip.com/downloads/en/DeviceDoc/22103a.pdf; ComponentLink2Description: Packaging Specification; ComponentLink2URL: http://www.microchip.com/stellent/groups/techpub_sg/documents/packagingspec/en012702.pdf; ComponentLink3Description: Microchip.com Home; ComponentLink3URL: http://www.microchip.com/
footprint SSOP-SS24_N (SOP, 24-Leads, Body 8.2x5.3mm, Pitch 0.65mm, IPC Medium Density)
footprint SSOP-SS24_L (SOP, 24-Leads, Body 8.2x5.3mm, Pitch 0.65mm, IPC High Density)
footprint SSOP-SS24_M (SOP, 24-Leads, Body 8.2x5.3mm, Pitch 0.65mm, IPC Low Density)
pins: 1 VSS (power), 2 GPB0 (io), 3 GPB1 (io), 4 GPB2 (io), 5 GPB3 (io), 6 GPB4 (io), 7 GPB5 (io), 8 GPB6 (io), 9 GPB7 (io), 10 VDD (power), 11 SCL (in), 12 SDA (io), 13 ADDR (in), 14 ~{RESET} (in), 15 INTB (oc), 16 INTA (oc), 17 GPA0 (io), 18 GPA1 (io), 19 GPA2 (io), 20 GPA3 (io), 21 GPA4 (io), 22 GPA5 (io), 23 GPA6 (io), 24 GPA7 (io)

## MCP25020-E/P
designator U?
CAN I/O Expander Family, 14-Pin PDIP, Extended Temperature; Published: 29-Jan-2009; DatasheetVersion: revD, Jan-2007; PackageVersion: revBB, Aug-2009; PackageReference: PDIP300-P14; Publisher: Altium Limited; PackageDescription: 14-Lead Plastic Dual In-Line (P) - 300 mil Body [PDIP]; Supplier 1: Digi-Key; Supplier Part Number 1: MCP25020-E/P-ND; ComponentLink1Description: Datasheet; ComponentLink1URL: http://ww1.microchip.com/downloads/en/DeviceDoc/21664D.pdf; ComponentLink2Description: Packaging Specification; ComponentLink2URL: http://www.microchip.com/stellent/groups/techpub_sg/documents/packagingspec/en012702.pdf; ComponentLink3Description: Microchip.com Home; ComponentLink3URL: http://www.microchip.com/
footprint PDIP300-P14 (DIP, 14-Leads, Row Spacing 7.62mm, Pitch 2.54mm, Body 19.2x6.6mm)
pins: 1 GP0 (io), 2 GP1 (io), 3 GP2/PWM1 (io), 4 GP3/PWM2 (io), 5 GP4/VREF- (io), 6 GP5/VREF+ (io), 7 VSS (power), 8 OSC1/CLKIN (in), 9 OSC2 (out), 10 GP6/CLKOUT (io), 11 GP7/~{RST}/VPP (out), 12 RXCAN (in), 13 TXCAN (out), 14 VDD (power)

## MCP25020-E/SL
designator U?
CAN I/O Expander Family, 14-Pin SOIC, Extended Temperature; Published: 29-Jan-2009; DatasheetVersion: revD, Jan-2007; PackageVersion: revBB, Aug-2009; PackageReference: SOIC-SL14; Publisher: Altium Limited; PackageDescription: 14-Lead Plastic Small Outline (SL) - Narrow, 3.90mm Body [SOIC]; Supplier 1: Digi-Key; Supplier Part Number 1: MCP25020-E/SL-ND; Code_JEDEC: MS-012-AB; Code_IPC: SOIC127P600-14; ComponentLink1Description: Datasheet; ComponentLink1URL: http://ww1.microchip.com/downloads/en/DeviceDoc/21664D.pdf; ComponentLink2Description: Packaging Specification; ComponentLink2URL: http://www.microchip.com/stellent/groups/techpub_sg/documents/packagingspec/en012702.pdf; ComponentLink3Description: Microchip.com Home; ComponentLink3URL: http://www.microchip.com/
footprint SOIC-SL14_N (SOIC, 14-Leads, Body 8.7x3.9mm, Pitch 1.27mm, IPC Medium Density)
footprint SOIC-SL14_L (SOIC, 14-Leads, Body 8.7x3.9mm, Pitch 1.27mm, IPC High Density)
footprint SOIC-SL14_M (SOIC, 14-Leads, Body 8.7x3.9mm, Pitch 1.27mm, IPC Low Density)
pins: 1 GP0 (io), 2 GP1 (io), 3 GP2/PWM1 (io), 4 GP3/PWM2 (io), 5 GP4/VREF- (io), 6 GP5/VREF+ (io), 7 VSS (power), 8 OSC1/CLKIN (in), 9 OSC2 (out), 10 GP6/CLKOUT (io), 11 GP7/~{RST}/VPP (out), 12 RXCAN (in), 13 TXCAN (out), 14 VDD (power)

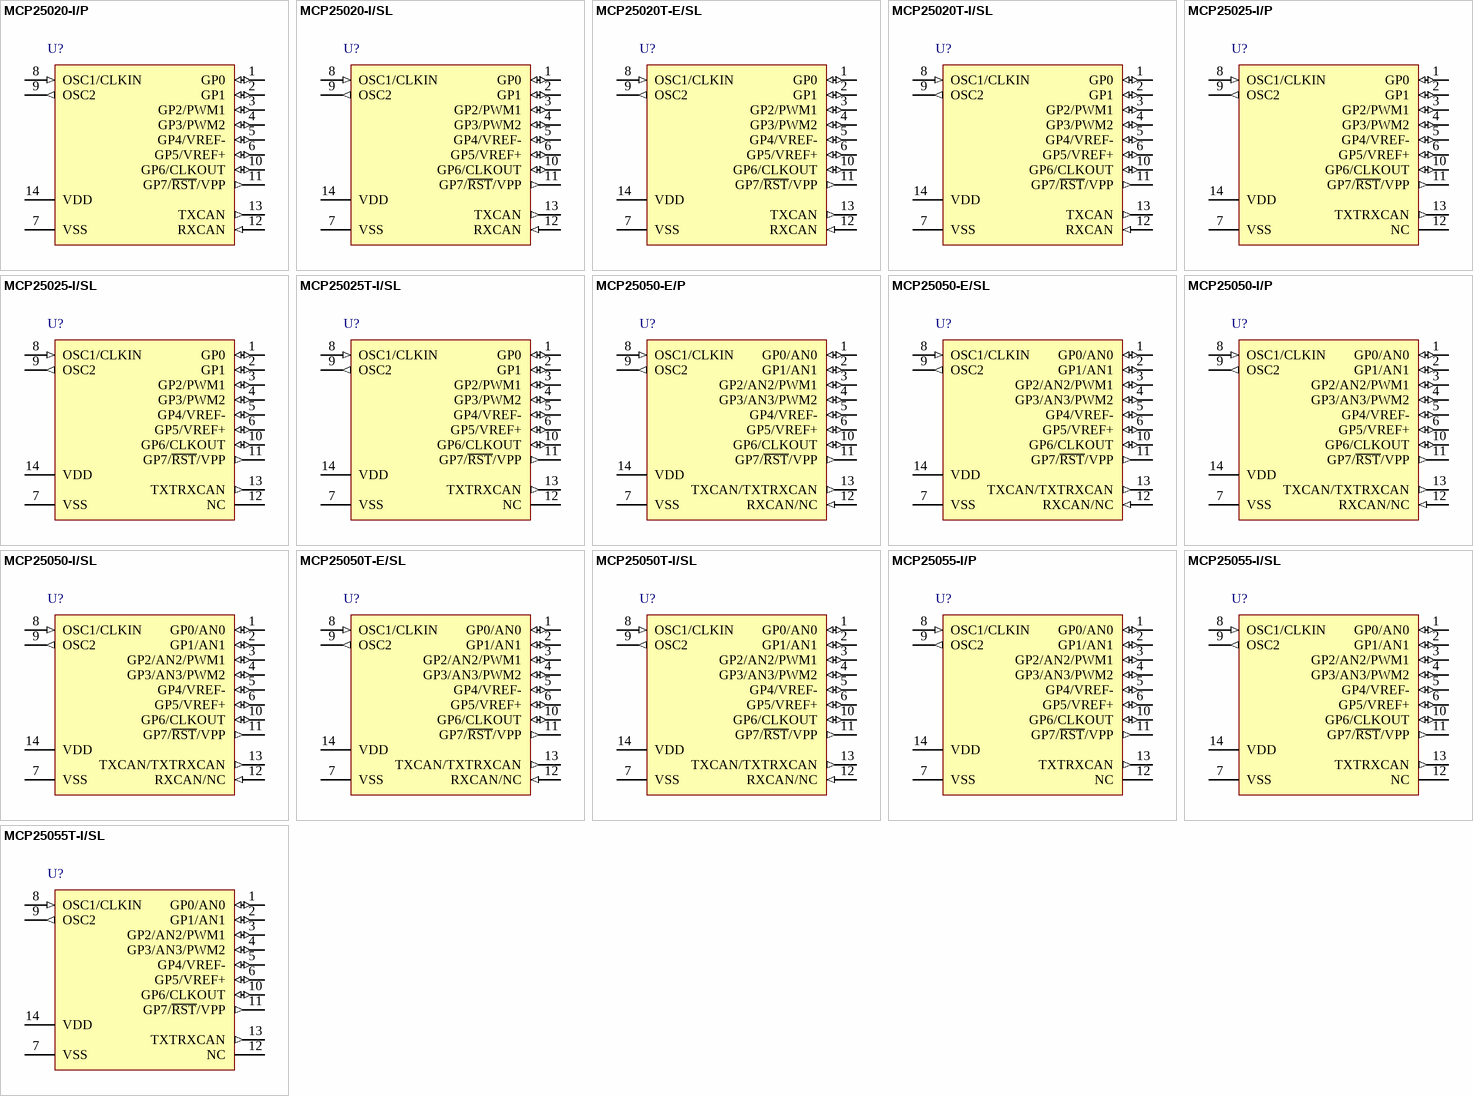
[diagram p8: symbols MCP25020-I/P to MCP25055T-I/SL]

## MCP25020-I/P
designator U?
CAN I/O Expander Family, 14-Pin PDIP, Industrial Temperature; Published: 29-Jan-2009; DatasheetVersion: revD, Jan-2007; PackageVersion: revBB, Aug-2009; PackageReference: PDIP300-P14; Publisher: Altium Limited; PackageDescription: 14-Lead Plastic Dual In-Line (P) - 300 mil Body [PDIP]; Supplier 1: Digi-Key; Supplier Part Number 1: MCP25020-I/P-ND; Supplier 2: Farnell; Supplier Part Number 2: 1261507; Supplier 3: Farnell; Supplier Part Number 3: 1467676; ComponentLink1Description: Datasheet; ComponentLink1URL: http://ww1.microchip.com/downloads/en/DeviceDoc/21664D.pdf; ComponentLink2Description: Packaging Specification; ComponentLink2URL: http://www.microchip.com/stellent/groups/techpub_sg/documents/packagingspec/en012702.pdf; ComponentLink3Description: Microchip.com Home; ComponentLink3URL: http://www.microchip.com/
footprint PDIP300-P14 (DIP, 14-Leads, Row Spacing 7.62mm, Pitch 2.54mm, Body 19.2x6.6mm)
pins: 1 GP0 (io), 2 GP1 (io), 3 GP2/PWM1 (io), 4 GP3/PWM2 (io), 5 GP4/VREF- (io), 6 GP5/VREF+ (io), 7 VSS (power), 8 OSC1/CLKIN (in), 9 OSC2 (out), 10 GP6/CLKOUT (io), 11 GP7/~{RST}/VPP (out), 12 RXCAN (in), 13 TXCAN (out), 14 VDD (power)

## MCP25020-I/SL
designator U?
CAN I/O Expander Family, 14-Pin SOIC, Industrial Temperature; Published: 29-Jan-2009; DatasheetVersion: revD, Jan-2007; PackageVersion: revBB, Aug-2009; PackageReference: SOIC-SL14; Publisher: Altium Limited; PackageDescription: 14-Lead Plastic Small Outline (SL) - Narrow, 3.90mm Body [SOIC]; Supplier 1: Digi-Key; Supplier Part Number 1: MCP25020-I/SL-ND; Supplier 2: Farnell; Supplier Part Number 2: 1816053; Code_JEDEC: MS-012-AB; Code_IPC: SOIC127P600-14; ComponentLink1Description: Datasheet; ComponentLink1URL: http://ww1.microchip.com/downloads/en/DeviceDoc/21664D.pdf; ComponentLink2Description: Packaging Specification; ComponentLink2URL: http://www.microchip.com/stellent/groups/techpub_sg/documents/packagingspec/en012702.pdf; ComponentLink3Description: Microchip.com Home; ComponentLink3URL: http://www.microchip.com/
footprint SOIC-SL14_N (SOIC, 14-Leads, Body 8.7x3.9mm, Pitch 1.27mm, IPC Medium Density)
footprint SOIC-SL14_L (SOIC, 14-Leads, Body 8.7x3.9mm, Pitch 1.27mm, IPC High Density)
footprint SOIC-SL14_M (SOIC, 14-Leads, Body 8.7x3.9mm, Pitch 1.27mm, IPC Low Density)
pins: 1 GP0 (io), 2 GP1 (io), 3 GP2/PWM1 (io), 4 GP3/PWM2 (io), 5 GP4/VREF- (io), 6 GP5/VREF+ (io), 7 VSS (power), 8 OSC1/CLKIN (in), 9 OSC2 (out), 10 GP6/CLKOUT (io), 11 GP7/~{RST}/VPP (out), 12 RXCAN (in), 13 TXCAN (out), 14 VDD (power)

## MCP25020T-E/SL
designator U?
CAN I/O Expander Family, 14-Pin SOIC, Extended Temperature, Tape and Reel; Published: 29-Jan-2009; DatasheetVersion: revD, Jan-2007; PackageVersion: revBB, Aug-2009; PackageReference: SOIC-SL14; Publisher: Altium Limited; PackageDescription: 14-Lead Plastic Small Outline (SL) - Narrow, 3.90mm Body [SOIC]; Supplier 1: Digi-Key; Supplier Part Number 1: MCP25020T-E/SL-ND; Code_JEDEC: MS-012-AB; Code_IPC: SOIC127P600-14; ComponentLink1Description: Datasheet; ComponentLink1URL: http://ww1.microchip.com/downloads/en/DeviceDoc/21664D.pdf; ComponentLink2Description: Packaging Specification; ComponentLink2URL: http://www.microchip.com/stellent/groups/techpub_sg/documents/packagingspec/en012702.pdf; ComponentLink3Description: Microchip.com Home; ComponentLink3URL: http://www.microchip.com/
footprint SOIC-SL14_N (SOIC, 14-Leads, Body 8.7x3.9mm, Pitch 1.27mm, IPC Medium Density)
footprint SOIC-SL14_L (SOIC, 14-Leads, Body 8.7x3.9mm, Pitch 1.27mm, IPC High Density)
footprint SOIC-SL14_M (SOIC, 14-Leads, Body 8.7x3.9mm, Pitch 1.27mm, IPC Low Density)
pins: 1 GP0 (io), 2 GP1 (io), 3 GP2/PWM1 (io), 4 GP3/PWM2 (io), 5 GP4/VREF- (io), 6 GP5/VREF+ (io), 7 VSS (power), 8 OSC1/CLKIN (in), 9 OSC2 (out), 10 GP6/CLKOUT (io), 11 GP7/~{RST}/VPP (out), 12 RXCAN (in), 13 TXCAN (out), 14 VDD (power)

## MCP25020T-I/SL
designator U?
CAN I/O Expander Family, 14-Pin SOIC, Industrial Temperature, Tape and Reel; Published: 29-Jan-2009; DatasheetVersion: revD, Jan-2007; PackageVersion: revBB, Aug-2009; PackageReference: SOIC-SL14; Publisher: Altium Limited; PackageDescription: 14-Lead Plastic Small Outline (SL) - Narrow, 3.90mm Body [SOIC]; Supplier 1: Digi-Key; Supplier Part Number 1: MCP25020T-I/SL-ND; Code_JEDEC: MS-012-AB; Code_IPC: SOIC127P600-14; ComponentLink1Description: Datasheet; ComponentLink1URL: http://ww1.microchip.com/downloads/en/DeviceDoc/21664D.pdf; ComponentLink2Description: Packaging Specification; ComponentLink2URL: http://www.microchip.com/stellent/groups/techpub_sg/documents/packagingspec/en012702.pdf; ComponentLink3Description: Microchip.com Home; ComponentLink3URL: http://www.microchip.com/
footprint SOIC-SL14_N (SOIC, 14-Leads, Body 8.7x3.9mm, Pitch 1.27mm, IPC Medium Density)
footprint SOIC-SL14_L (SOIC, 14-Leads, Body 8.7x3.9mm, Pitch 1.27mm, IPC High Density)
footprint SOIC-SL14_M (SOIC, 14-Leads, Body 8.7x3.9mm, Pitch 1.27mm, IPC Low Density)
pins: 1 GP0 (io), 2 GP1 (io), 3 GP2/PWM1 (io), 4 GP3/PWM2 (io), 5 GP4/VREF- (io), 6 GP5/VREF+ (io), 7 VSS (power), 8 OSC1/CLKIN (in), 9 OSC2 (out), 10 GP6/CLKOUT (io), 11 GP7/~{RST}/VPP (out), 12 RXCAN (in), 13 TXCAN (out), 14 VDD (power)

## MCP25025-I/P
designator U?
CAN I/O Expander Family, One Wire Digital CANbus, 14-Pin PDIP, Industrial Temperature; Published: 29-Jan-2009; DatasheetVersion: revD, Jan-2007; PackageVersion: revBB, Aug-2009; PackageReference: PDIP300-P14; Publisher: Altium Limited; PackageDescription: 14-Lead Plastic Dual In-Line (P) - 300 mil Body [PDIP]; Supplier 1: Digi-Key; Supplier Part Number 1: MCP25025-I/P-ND; ComponentLink1Description: Datasheet; ComponentLink1URL: http://ww1.microchip.com/downloads/en/DeviceDoc/21664D.pdf; ComponentLink2Description: Packaging Specification; ComponentLink2URL: http://www.microchip.com/stellent/groups/techpub_sg/documents/packagingspec/en012702.pdf; ComponentLink3Description: Microchip.com Home; ComponentLink3URL: http://www.microchip.com/
footprint PDIP300-P14 (DIP, 14-Leads, Row Spacing 7.62mm, Pitch 2.54mm, Body 19.2x6.6mm)
pins: 1 GP0 (io), 2 GP1 (io), 3 GP2/PWM1 (io), 4 GP3/PWM2 (io), 5 GP4/VREF- (io), 6 GP5/VREF+ (io), 7 VSS (power), 8 OSC1/CLKIN (in), 9 OSC2 (out), 10 GP6/CLKOUT (io), 11 GP7/~{RST}/VPP (out), 12 NC, 13 TXTRXCAN (out), 14 VDD (power)

## MCP25025-I/SL
designator U?
CAN I/O Expander Family, One Wire Digital CANbus, 14-Pin SOIC, Industrial Temperature; Published: 29-Jan-2009; DatasheetVersion: revD, Jan-2007; PackageVersion: revBB, Aug-2009; PackageReference: SOIC-SL14; Publisher: Altium Limited; PackageDescription: 14-Lead Plastic Small Outline (SL) - Narrow, 3.90mm Body [SOIC]; Supplier 1: Digi-Key; Supplier Part Number 1: MCP25025-I/SL-ND; Code_JEDEC: MS-012-AB; Code_IPC: SOIC127P600-14; ComponentLink1Description: Datasheet; ComponentLink1URL: http://ww1.microchip.com/downloads/en/DeviceDoc/21664D.pdf; ComponentLink2Description: Packaging Specification; ComponentLink2URL: http://www.microchip.com/stellent/groups/techpub_sg/documents/packagingspec/en012702.pdf; ComponentLink3Description: Microchip.com Home; ComponentLink3URL: http://www.microchip.com/
footprint SOIC-SL14_N (SOIC, 14-Leads, Body 8.7x3.9mm, Pitch 1.27mm, IPC Medium Density)
footprint SOIC-SL14_L (SOIC, 14-Leads, Body 8.7x3.9mm, Pitch 1.27mm, IPC High Density)
footprint SOIC-SL14_M (SOIC, 14-Leads, Body 8.7x3.9mm, Pitch 1.27mm, IPC Low Density)
pins: 1 GP0 (io), 2 GP1 (io), 3 GP2/PWM1 (io), 4 GP3/PWM2 (io), 5 GP4/VREF- (io), 6 GP5/VREF+ (io), 7 VSS (power), 8 OSC1/CLKIN (in), 9 OSC2 (out), 10 GP6/CLKOUT (io), 11 GP7/~{RST}/VPP (out), 12 NC, 13 TXTRXCAN (out), 14 VDD (power)

## MCP25025T-I/SL
designator U?
CAN I/O Expander Family, One Wire Digital CANbus, 14-Pin SOIC, Industrial Temperature, Tape and Reel; Published: 29-Jan-2009; DatasheetVersion: revD, Jan-2007; PackageVersion: revBB, Aug-2009; PackageReference: SOIC-SL14; Publisher: Altium Limited; PackageDescription: 14-Lead Plastic Small Outline (SL) - Narrow, 3.90mm Body [SOIC]; Supplier 1: Digi-Key; Supplier Part Number 1: MCP25025T-I/SL-ND; Code_JEDEC: MS-012-AB; Code_IPC: SOIC127P600-14; ComponentLink1Description: Datasheet; ComponentLink1URL: http://ww1.microchip.com/downloads/en/DeviceDoc/21664D.pdf; ComponentLink2Description: Packaging Specification; ComponentLink2URL: http://www.microchip.com/stellent/groups/techpub_sg/documents/packagingspec/en012702.pdf; ComponentLink3Description: Microchip.com Home; ComponentLink3URL: http://www.microchip.com/
footprint SOIC-SL14_N (SOIC, 14-Leads, Body 8.7x3.9mm, Pitch 1.27mm, IPC Medium Density)
footprint SOIC-SL14_L (SOIC, 14-Leads, Body 8.7x3.9mm, Pitch 1.27mm, IPC High Density)
footprint SOIC-SL14_M (SOIC, 14-Leads, Body 8.7x3.9mm, Pitch 1.27mm, IPC Low Density)
pins: 1 GP0 (io), 2 GP1 (io), 3 GP2/PWM1 (io), 4 GP3/PWM2 (io), 5 GP4/VREF- (io), 6 GP5/VREF+ (io), 7 VSS (power), 8 OSC1/CLKIN (in), 9 OSC2 (out), 10 GP6/CLKOUT (io), 11 GP7/~{RST}/VPP (out), 12 NC, 13 TXTRXCAN (out), 14 VDD (power)

## MCP25050-E/P
designator U?
CAN I/O Expander Family, 10-Bit A/D, 14-Pin PDIP, Extended Temperature; Published: 29-Jan-2009; DatasheetVersion: revD, Jan-2007; PackageVersion: revBB, Aug-2009; PackageReference: PDIP300-P14; Publisher: Altium Limited; PackageDescription: 14-Lead Plastic Dual In-Line (P) - 300 mil Body [PDIP]; Supplier 1: Digi-Key; Supplier Part Number 1: MCP25050-E/P-ND; Supplier 2: Farnell; Supplier Part Number 2: 3004272; Supplier 3: Farnell; Supplier Part Number 3: 1467677; ComponentLink1Description: Datasheet; ComponentLink1URL: http://ww1.microchip.com/downloads/en/DeviceDoc/21664D.pdf; ComponentLink2Description: Packaging Specification; ComponentLink2URL: http://www.microchip.com/stellent/groups/techpub_sg/documents/packagingspec/en012702.pdf; ComponentLink3Description: Microchip.com Home; ComponentLink3URL: http://www.microchip.com/
footprint PDIP300-P14 (DIP, 14-Leads, Row Spacing 7.62mm, Pitch 2.54mm, Body 19.2x6.6mm)
pins: 1 GP0/AN0 (io), 2 GP1/AN1 (io), 3 GP2/AN2/PWM1 (io), 4 GP3/AN3/PWM2 (io), 5 GP4/VREF- (io), 6 GP5/VREF+ (io), 7 VSS (power), 8 OSC1/CLKIN (in), 9 OSC2 (out), 10 GP6/CLKOUT (io), 11 GP7/~{RST}/VPP (out), 12 RXCAN/NC (in), 13 TXCAN/TXTRXCAN (out), 14 VDD (power)

## MCP25050-E/SL
designator U?
CAN I/O Expander Family, 10-Bit A/D, 14-Pin SOIC, Extended Temperature; Published: 29-Jan-2009; DatasheetVersion: revD, Jan-2007; PackageVersion: revBB, Aug-2009; PackageReference: SOIC-SL14; Publisher: Altium Limited; PackageDescription: 14-Lead Plastic Small Outline (SL) - Narrow, 3.90mm Body [SOIC]; Supplier 1: Digi-Key; Supplier Part Number 1: MCP25050-E/SL-ND; Code_JEDEC: MS-012-AB; Code_IPC: SOIC127P600-14; ComponentLink1Description: Datasheet; ComponentLink1URL: http://ww1.microchip.com/downloads/en/DeviceDoc/21664D.pdf; ComponentLink2Description: Packaging Specification; ComponentLink2URL: http://www.microchip.com/stellent/groups/techpub_sg/documents/packagingspec/en012702.pdf; ComponentLink3Description: Microchip.com Home; ComponentLink3URL: http://www.microchip.com/
footprint SOIC-SL14_N (SOIC, 14-Leads, Body 8.7x3.9mm, Pitch 1.27mm, IPC Medium Density)
footprint SOIC-SL14_L (SOIC, 14-Leads, Body 8.7x3.9mm, Pitch 1.27mm, IPC High Density)
footprint SOIC-SL14_M (SOIC, 14-Leads, Body 8.7x3.9mm, Pitch 1.27mm, IPC Low Density)
pins: 1 GP0/AN0 (io), 2 GP1/AN1 (io), 3 GP2/AN2/PWM1 (io), 4 GP3/AN3/PWM2 (io), 5 GP4/VREF- (io), 6 GP5/VREF+ (io), 7 VSS (power), 8 OSC1/CLKIN (in), 9 OSC2 (out), 10 GP6/CLKOUT (io), 11 GP7/~{RST}/VPP (out), 12 RXCAN/NC (in), 13 TXCAN/TXTRXCAN (out), 14 VDD (power)

## MCP25050-I/P
designator U?
CAN I/O Expander Family, 10-Bit A/D, 14-Pin PDIP, Industrial Temperature; Published: 29-Jan-2009; DatasheetVersion: revD, Jan-2007; PackageVersion: revBB, Aug-2009; PackageReference: PDIP300-P14; Publisher: Altium Limited; PackageDescription: 14-Lead Plastic Dual In-Line (P) - 300 mil Body [PDIP]; Supplier 1: Digi-Key; Supplier Part Number 1: MCP25050-I/P-ND; Supplier 2: Farnell; Supplier Part Number 2: 1439736; ComponentLink1Description: Datasheet; ComponentLink1URL: http://ww1.microchip.com/downloads/en/DeviceDoc/21664D.pdf; ComponentLink2Description: Packaging Specification; ComponentLink2URL: http://www.microchip.com/stellent/groups/techpub_sg/documents/packagingspec/en012702.pdf; ComponentLink3Description: Microchip.com Home; ComponentLink3URL: http://www.microchip.com/
footprint PDIP300-P14 (DIP, 14-Leads, Row Spacing 7.62mm, Pitch 2.54mm, Body 19.2x6.6mm)
pins: 1 GP0/AN0 (io), 2 GP1/AN1 (io), 3 GP2/AN2/PWM1 (io), 4 GP3/AN3/PWM2 (io), 5 GP4/VREF- (io), 6 GP5/VREF+ (io), 7 VSS (power), 8 OSC1/CLKIN (in), 9 OSC2 (out), 10 GP6/CLKOUT (io), 11 GP7/~{RST}/VPP (out), 12 RXCAN/NC (in), 13 TXCAN/TXTRXCAN (out), 14 VDD (power)

## MCP25050-I/SL
designator U?
CAN I/O Expander Family, 10-Bit A/D, 14-Pin SOIC, Industrial Temperature; Published: 29-Jan-2009; DatasheetVersion: revD, Jan-2007; PackageVersion: revBB, Aug-2009; PackageReference: SOIC-SL14; Publisher: Altium Limited; PackageDescription: 14-Lead Plastic Small Outline (SL) - Narrow, 3.90mm Body [SOIC]; Supplier 1: Digi-Key; Supplier Part Number 1: MCP25050-I/SL-ND; Code_JEDEC: MS-012-AB; Code_IPC: SOIC127P600-14; ComponentLink1Description: Datasheet; ComponentLink1URL: http://ww1.microchip.com/downloads/en/DeviceDoc/21664D.pdf; ComponentLink2Description: Packaging Specification; ComponentLink2URL: http://www.microchip.com/stellent/groups/techpub_sg/documents/packagingspec/en012702.pdf; ComponentLink3Description: Microchip.com Home; ComponentLink3URL: http://www.microchip.com/
footprint SOIC-SL14_N (SOIC, 14-Leads, Body 8.7x3.9mm, Pitch 1.27mm, IPC Medium Density)
footprint SOIC-SL14_L (SOIC, 14-Leads, Body 8.7x3.9mm, Pitch 1.27mm, IPC High Density)
footprint SOIC-SL14_M (SOIC, 14-Leads, Body 8.7x3.9mm, Pitch 1.27mm, IPC Low Density)
pins: 1 GP0/AN0 (io), 2 GP1/AN1 (io), 3 GP2/AN2/PWM1 (io), 4 GP3/AN3/PWM2 (io), 5 GP4/VREF- (io), 6 GP5/VREF+ (io), 7 VSS (power), 8 OSC1/CLKIN (in), 9 OSC2 (out), 10 GP6/CLKOUT (io), 11 GP7/~{RST}/VPP (out), 12 RXCAN/NC (in), 13 TXCAN/TXTRXCAN (out), 14 VDD (power)

## MCP25050T-E/SL
designator U?
CAN I/O Expander Family, 10-Bit A/D, 14-Pin SOIC, Extended Temperature, Tape and Reel; Published: 29-Jan-2009; DatasheetVersion: revD, Jan-2007; PackageVersion: revBB, Aug-2009; PackageReference: SOIC-SL14; Publisher: Altium Limited; PackageDescription: 14-Lead Plastic Small Outline (SL) - Narrow, 3.90mm Body [SOIC]; Supplier 1: Digi-Key; Supplier Part Number 1: MCP25050T-E/SL-ND; Code_JEDEC: MS-012-AB; Code_IPC: SOIC127P600-14; ComponentLink1Description: Datasheet; ComponentLink1URL: http://ww1.microchip.com/downloads/en/DeviceDoc/21664D.pdf; ComponentLink2Description: Packaging Specification; ComponentLink2URL: http://www.microchip.com/stellent/groups/techpub_sg/documents/packagingspec/en012702.pdf; ComponentLink3Description: Microchip.com Home; ComponentLink3URL: http://www.microchip.com/
footprint SOIC-SL14_N (SOIC, 14-Leads, Body 8.7x3.9mm, Pitch 1.27mm, IPC Medium Density)
footprint SOIC-SL14_L (SOIC, 14-Leads, Body 8.7x3.9mm, Pitch 1.27mm, IPC High Density)
footprint SOIC-SL14_M (SOIC, 14-Leads, Body 8.7x3.9mm, Pitch 1.27mm, IPC Low Density)
pins: 1 GP0/AN0 (io), 2 GP1/AN1 (io), 3 GP2/AN2/PWM1 (io), 4 GP3/AN3/PWM2 (io), 5 GP4/VREF- (io), 6 GP5/VREF+ (io), 7 VSS (power), 8 OSC1/CLKIN (in), 9 OSC2 (out), 10 GP6/CLKOUT (io), 11 GP7/~{RST}/VPP (out), 12 RXCAN/NC (in), 13 TXCAN/TXTRXCAN (out), 14 VDD (power)

## MCP25050T-I/SL
designator U?
CAN I/O Expander Family, 10-Bit A/D, 14-Pin SOIC, Industrial Temperature, Tape and Reel; Published: 29-Jan-2009; DatasheetVersion: revD, Jan-2007; PackageVersion: revBB, Aug-2009; PackageReference: SOIC-SL14; Publisher: Altium Limited; PackageDescription: 14-Lead Plastic Small Outline (SL) - Narrow, 3.90mm Body [SOIC]; Supplier 1: Digi-Key; Supplier Part Number 1: MCP25050T-I/SL-ND; Code_JEDEC: MS-012-AB; Code_IPC: SOIC127P600-14; ComponentLink1Description: Datasheet; ComponentLink1URL: http://ww1.microchip.com/downloads/en/DeviceDoc/21664D.pdf; ComponentLink2Description: Packaging Specification; ComponentLink2URL: http://www.microchip.com/stellent/groups/techpub_sg/documents/packagingspec/en012702.pdf; ComponentLink3Description: Microchip.com Home; ComponentLink3URL: http://www.microchip.com/
footprint SOIC-SL14_N (SOIC, 14-Leads, Body 8.7x3.9mm, Pitch 1.27mm, IPC Medium Density)
footprint SOIC-SL14_L (SOIC, 14-Leads, Body 8.7x3.9mm, Pitch 1.27mm, IPC High Density)
footprint SOIC-SL14_M (SOIC, 14-Leads, Body 8.7x3.9mm, Pitch 1.27mm, IPC Low Density)
pins: 1 GP0/AN0 (io), 2 GP1/AN1 (io), 3 GP2/AN2/PWM1 (io), 4 GP3/AN3/PWM2 (io), 5 GP4/VREF- (io), 6 GP5/VREF+ (io), 7 VSS (power), 8 OSC1/CLKIN (in), 9 OSC2 (out), 10 GP6/CLKOUT (io), 11 GP7/~{RST}/VPP (out), 12 RXCAN/NC (in), 13 TXCAN/TXTRXCAN (out), 14 VDD (power)

## MCP25055-I/P
designator U?
CAN I/O Expander Family, 10-Bit A/D, One Wire Digital CANbus, 14-Pin PDIP, Industrial Temperature; Published: 29-Jan-2009; DatasheetVersion: revD, Jan-2007; PackageVersion: revBB, Aug-2009; PackageReference: PDIP300-P14; Publisher: Altium Limited; PackageDescription: 14-Lead Plastic Dual In-Line (P) - 300 mil Body [PDIP]; Supplier 1: Digi-Key; Supplier Part Number 1: MCP25055-I/P-ND; Supplier 2: Farnell; Supplier Part Number 2: 1261508; ComponentLink1Description: Datasheet; ComponentLink1URL: http://ww1.microchip.com/downloads/en/DeviceDoc/21664D.pdf; ComponentLink2Description: Packaging Specification; ComponentLink2URL: http://www.microchip.com/stellent/groups/techpub_sg/documents/packagingspec/en012702.pdf; ComponentLink3Description: Microchip.com Home; ComponentLink3URL: http://www.microchip.com/
footprint PDIP300-P14 (DIP, 14-Leads, Row Spacing 7.62mm, Pitch 2.54mm, Body 19.2x6.6mm)
pins: 1 GP0/AN0 (io), 2 GP1/AN1 (io), 3 GP2/AN2/PWM1 (io), 4 GP3/AN3/PWM2 (io), 5 GP4/VREF- (io), 6 GP5/VREF+ (io), 7 VSS (power), 8 OSC1/CLKIN (in), 9 OSC2 (out), 10 GP6/CLKOUT (io), 11 GP7/~{RST}/VPP (out), 12 NC, 13 TXTRXCAN (out), 14 VDD (power)